# Altium integrated library ON Semi Logic Parity Gen Check Detect.IntLib: 4 symbols
Pins are listed as number, name and electrical type; pins without a type are passive.

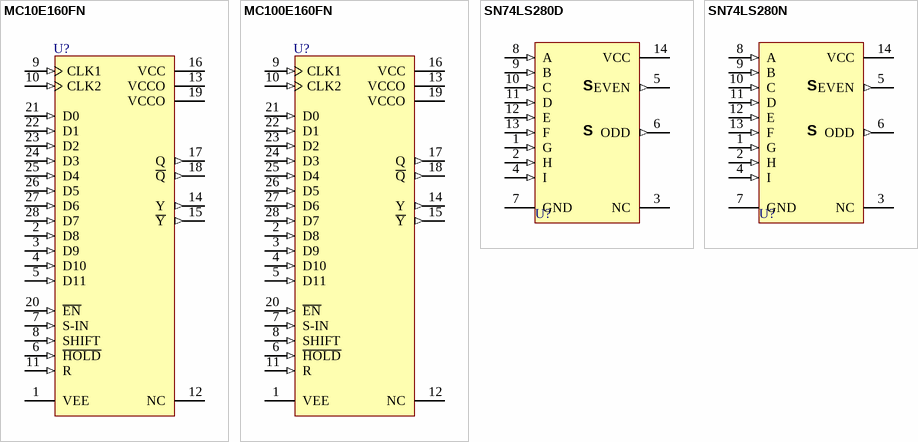
[diagram p0: symbols MC10E160FN to SN74LS280N]

## MC10E160FN
designator U?
12-Bit Parity Generator/Checker; ComponentAvailability: Not for New Design; Published: 15-Apr-2002; LatestRevisionDate: 13-Apr-2006; LatestRevisionNote: IPC-7351 Footprint Added.; DatasheetVersion: 1996; PackageVersion: Feb-2000; PackageReference: 776-02; Publisher: Altium Limited; PackageDescription: 28-Pin Leaded Chip Carrier 1.27 mm Pitch; ComponentLink1Description: Manufacturer Link; ComponentLink1URL: http://www.onsemi.com/; ComponentLink2Description: Datasheet; ComponentLink2URL: http://www.onsemi.com/pub/Collateral/MC10E160-D.PDF
footprint 776-02_N (Leaded Chip Carrier, 28-Leads, Body 11.5x11.5mm, Pitch 1.27mm, IPC Medium Density)
footprint 776-02_L (Leaded Chip Carrier, 28-Leads, Body 11.5x11.5mm, Pitch 1.27mm, IPC High Density)
footprint 776-02_M (Leaded Chip Carrier, 28-Leads, Body 11.5x11.5mm, Pitch 1.27mm, IPC Low Density)
pins: 1 VEE (power), 2 D8 (in), 3 D9 (in), 4 D10 (in), 5 D11 (in), 6 ~{HOLD} (in), 7 S-IN (in), 8 SHIFT (in), 9 CLK1 (in), 10 CLK2 (in), 11 R (in), 12 NC, 13 VCCO (power), 14 Y (out), 15 ~{Y} (out), 16 VCC (power), 17 Q (out), 18 ~{Q} (out), 19 VCCO (power), 20 ~{EN} (in), 21 D0 (in), 22 D1 (in), 23 D2 (in), 24 D3 (in), 25 D4 (in), 26 D5 (in), 27 D6 (in), 28 D7 (in)

## MC100E160FN
designator U?
12-Bit Parity Generator/Checker; ComponentAvailability: Not for New Design; Published: 15-Apr-2002; LatestRevisionDate: 13-Apr-2006; LatestRevisionNote: IPC-7351 Footprint Added.; DatasheetVersion: 1996; PackageVersion: Feb-2000; PackageReference: 776-02; Publisher: Altium Limited; PackageDescription: 28-Pin Leaded Chip Carrier 1.27 mm Pitch; ComponentLink1Description: Manufacturer Link; ComponentLink1URL: http://www.onsemi.com/; ComponentLink2Description: Datasheet; ComponentLink2URL: http://www.onsemi.com/pub/Collateral/MC10E160-D.PDF
footprint 776-02_N (Leaded Chip Carrier, 28-Leads, Body 11.5x11.5mm, Pitch 1.27mm, IPC Medium Density)
footprint 776-02_L (Leaded Chip Carrier, 28-Leads, Body 11.5x11.5mm, Pitch 1.27mm, IPC High Density)
footprint 776-02_M (Leaded Chip Carrier, 28-Leads, Body 11.5x11.5mm, Pitch 1.27mm, IPC Low Density)
pins: 1 VEE (power), 2 D8 (in), 3 D9 (in), 4 D10 (in), 5 D11 (in), 6 ~{HOLD} (in), 7 S-IN (in), 8 SHIFT (in), 9 CLK1 (in), 10 CLK2 (in), 11 R (in), 12 NC, 13 VCCO (power), 14 Y (out), 15 ~{Y} (out), 16 VCC (power), 17 Q (out), 18 ~{Q} (out), 19 VCCO (power), 20 ~{EN} (in), 21 D0 (in), 22 D1 (in), 23 D2 (in), 24 D3 (in), 25 D4 (in), 26 D5 (in), 27 D6 (in), 28 D7 (in)

## SN74LS280D
designator U?
9-Bit Odd/Even Parity Generator/Checker; Published: 15-Apr-2002; LatestRevisionDate: 13-Apr-2006; LatestRevisionNote: IPC-7351 Footprint Added.; DatasheetVersion: Dec-1999; PackageReference: 751A-03; Publisher: Altium Limited; PackageDescription: 14-Pin Small Outline Integrated Circuit 1.27 mm Pitch; Code_JEDEC: MS-012-AB; Code_IPC: SOIC127P600-14; ComponentLink1Description: Manufacturer Link; ComponentLink1URL: http://www.onsemi.com/; ComponentLink2Description: Datasheet; ComponentLink2URL: http://www.onsemi.com/pub/Collateral/SN74LS280-D.PDF
footprint 751A-03_N (SOIC, 14-Leads, Body 8.7x3.9mm, Pitch 1.27mm, IPC Medium Density)
footprint 751A-03_L (SOIC, 14-Leads, Body 8.7x3.9mm, Pitch 1.27mm, IPC High Density)
footprint 751A-03_M (SOIC, 14-Leads, Body 8.7x3.9mm, Pitch 1.27mm, IPC Low Density)
signal-integrity model SN74LS259N
pins: 1 G (in), 2 H (in), 3 NC, 4 I (in), 5 EVEN (out), 6 ODD (out), 7 GND (power), 8 A (in), 9 B (in), 10 C (in), 11 D (in), 12 E (in), 13 F (in), 14 VCC (power)
text: S

## SN74LS280N
designator U?
9-Bit Odd/Even Parity Generator/Checker; Published: 15-Apr-2002; DatasheetVersion: Dec-1999; PackageVersion: 1995; PackageReference: 646-06; Publisher: Altium Limited; PackageDescription: DIP; 14 Leads; Row Spacing 7.62 mm; Pitch 2.54 mm; ComponentLink1Description: Manufacturer Link; ComponentLink1URL: http://www.onsemi.com/; ComponentLink2Description: Datasheet; ComponentLink2URL: http://www.onsemi.com/pub/Collateral/SN74LS280-D.PDF
footprint 646-06 (DIP; 14 Leads; Row Spacing 7.62 mm; Pitch 2.54 mm)
signal-integrity model SN74LS259N
pins: 1 G (in), 2 H (in), 3 NC, 4 I (in), 5 EVEN (out), 6 ODD (out), 7 GND (power), 8 A (in), 9 B (in), 10 C (in), 11 D (in), 12 E (in), 13 F (in), 14 VCC (power)
text: S